# EAGLE library part LPS331AP (library blees)
LPS331AP pressure sensor device designed by BLEES EECS 373
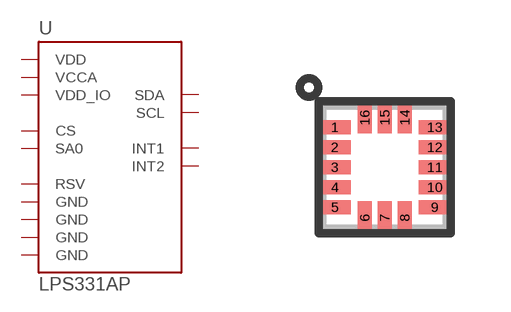
[diagram p0: symbol with the pads of HCLGA-16L; footprint HCLGA-16L]

Designator prefix U

## LPS331APQFN  [HCLGA-16L]
1  VDD_IO  pwr
4  SCL
5  GND  pwr
6  SDA
7  SA0  in
8  CS  in
9  INT2
10  RSV  pwr
11  INT1
12  GND  pwr
13  GND  pwr
14  VDD  pwr
15  VCCA  pwr
16  GND  pwr

## Footprint HCLGA-16L (pad centres in mm)
Footprint created for ST Microelectronics LPS331AP sensor and other HCLGA-16L packages.
smd 0.8 x 0.35: 1 -1.25,1; 2 -1.25,0.5; 3 -1.25,0; 4 -1.25,-0.5; 5 -1.25,-1; 9 1.25,-1; 10 1.25,-0.5; 11 1.25,0; 12 1.25,0.5; 13 1.25,1
smd 0.35 x 0.8: 6 -0.5,-1.25; 7 0,-1.25; 8 0.5,-1.25; 14 0.5,1.25; 15 0,1.25; 16 -0.5,1.25